# Altium integrated library Capacitors - Ceramic - 0402.IntLib: 4569 symbols (part 9 of 100)
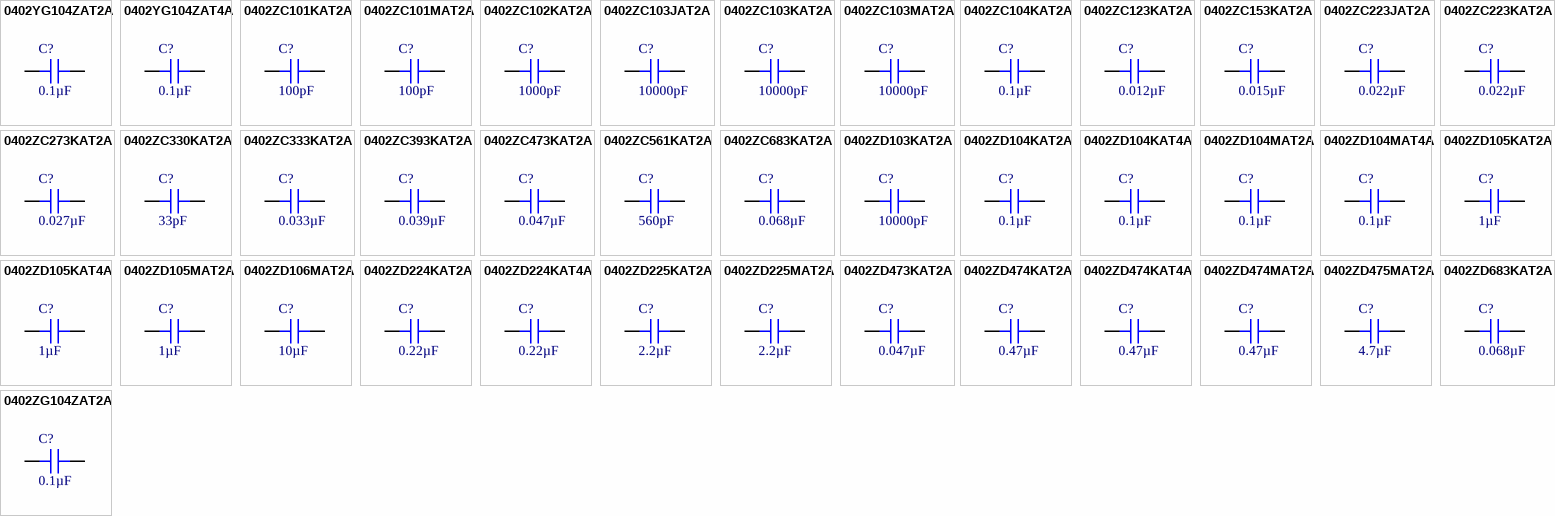
[diagram p122: symbols 0402YG104ZAT2A to 0402ZG104ZAT2A]

## 0402ZC123KAT2A
designator C?, comment 0.012µF
CAP CER 0.012UF 10V X7R 0402; Part Number: 0402ZC123KAT2A; Manufacturer: AVX Corporation; Tolerance: ±10%; Value: 0.012µF; Applications: General Purpose; Capacitance: 0.012µF; ComponentLink1Description: Datasheet; ComponentLink1URL: http://datasheets.avx.com/X7RDielectric.pdf; ComponentLink2Description: DigiKey Link; ComponentLink2URL: http://digikey.com/product-detail/en/avx-corporation/0402ZC123KAT2A/478-11787-1-ND/8573423; Device Package: 0402 (1005 Metric); LastUpdated: 9/2/2020 1:02:20 AM; Lifecycle Status: Active; Minimum Order: 1; Mounting Type: Surface Mount, MLCC; Operating Temperature: -55°C ~ 125°C; Package / Case: 0402 (1005 Metric); Packaging: TapeAndReel; PartId: 3773; Part Status: Active; Price: 0.08; Series: -; Size / Dimension: 0.039" L x 0.020" W (1.00mm x 0.50mm); Supplier 1: DigiKey; Supplier Part Number 1: 478-11787-1-ND; Temperature Coefficient: X7R; Thickness (Max): 0.022" (0.56mm); Voltage - Rated: 10V
footprint CAP 0402_1005
pins: 1, 2

## 0402ZC153KAT2A
designator C?, comment 0.015µF
CAP CER 0.015UF 10V X7R 0402; Part Number: 0402ZC153KAT2A; Manufacturer: AVX Corporation; Tolerance: ±10%; Value: 0.015µF; Applications: General Purpose; Capacitance: 0.015µF; ComponentLink1Description: Datasheet; ComponentLink1URL: http://datasheets.avx.com/X7RDielectric.pdf; ComponentLink2Description: DigiKey Link; ComponentLink2URL: http://digikey.com/product-detail/en/avx-corporation/0402ZC153KAT2A/478-11788-1-ND/8573424; Device Package: 0402 (1005 Metric); LastUpdated: 9/2/2020 1:01:22 AM; Lifecycle Status: Active; Minimum Order: 1; Mounting Type: Surface Mount, MLCC; Operating Temperature: -55°C ~ 125°C; Package / Case: 0402 (1005 Metric); Packaging: TapeAndReel; PartId: 13189; Part Status: Active; Price: 0.07; Series: -; Size / Dimension: 0.039" L x 0.020" W (1.00mm x 0.50mm); Supplier 1: DigiKey; Supplier Part Number 1: 478-11788-1-ND; Temperature Coefficient: X7R; Thickness (Max): 0.022" (0.56mm); Voltage - Rated: 10V
footprint CAP 0402_1005
pins: 1, 2

## 0402ZC223JAT2A
designator C?, comment 0.022µF
CAP CER 0.022UF 10V X7R 0402; Part Number: 0402ZC223JAT2A; Manufacturer: AVX Corporation; Tolerance: ±5%; Value: 0.022µF; Applications: General Purpose; Capacitance: 0.022µF; ComponentLink1Description: Datasheet; ComponentLink1URL: http://datasheets.avx.com/X7RDielectric.pdf; ComponentLink2Description: DigiKey Link; ComponentLink2URL: http://digikey.com/product-detail/en/avx-corporation/0402ZC223JAT2A/478-11789-1-ND/8573425; Device Package: 0402 (1005 Metric); LastUpdated: 9/2/2020 1:01:08 AM; Lifecycle Status: Active; Minimum Order: 1; Mounting Type: Surface Mount, MLCC; Operating Temperature: -55°C ~ 125°C; Package / Case: 0402 (1005 Metric); Packaging: TapeAndReel; PartId: 26155; Part Status: Active; Price: 0.07; Series: -; Supplier 1: DigiKey; Supplier Part Number 1: 478-11789-1-ND; Temperature Coefficient: X7R; Voltage - Rated: 10V
footprint CAP 0402_1005
pins: 1, 2

## 0402ZC223KAT2A
designator C?, comment 0.022µF
CAP CER 0.022UF 10V X7R 0402; Part Number: 0402ZC223KAT2A; Manufacturer: AVX Corporation; Tolerance: ±10%; Value: 0.022µF; Applications: General Purpose; Capacitance: 0.022µF; ComponentLink1Description: Datasheet; ComponentLink1URL: http://datasheets.avx.com/X7RDielectric.pdf; ComponentLink2Description: DigiKey Link; ComponentLink2URL: http://digikey.com/product-detail/en/avx-corporation/0402ZC223KAT2A/478-12664-1-ND/9949196; Device Package: 0402 (1005 Metric); LastUpdated: 9/2/2020 1:02:24 AM; Lifecycle Status: Active; Minimum Order: 1; Mounting Type: Surface Mount, MLCC; Operating Temperature: -55°C ~ 125°C; Package / Case: 0402 (1005 Metric); Packaging: TapeAndReel; PartId: 1928; Part Status: Active; Price: 0.01; Series: -; Size / Dimension: 0.039" L x 0.020" W (1.00mm x 0.50mm); Supplier 1: DigiKey; Supplier Part Number 1: 478-12664-1-ND; Temperature Coefficient: X7R; Thickness (Max): 0.022" (0.56mm); Voltage - Rated: 10V
footprint CAP 0402_1005
pins: 1, 2

## 0402ZC273KAT2A
designator C?, comment 0.027µF
CAP CER 0.027UF 10V X7R 0402; Part Number: 0402ZC273KAT2A; Manufacturer: AVX Corporation; Tolerance: ±10%; Value: 0.027µF; Applications: General Purpose; Capacitance: 0.027µF; ComponentLink1Description: Datasheet; ComponentLink1URL: http://datasheets.avx.com/X7RDielectric.pdf; ComponentLink2Description: DigiKey Link; ComponentLink2URL: http://digikey.com/product-detail/en/avx-corporation/0402ZC273KAT2A/478-1119-1-ND/564151; Device Package: 0402 (1005 Metric); LastUpdated: 9/2/2020 1:02:20 AM; Lifecycle Status: Active; Minimum Order: 1; Mounting Type: Surface Mount, MLCC; Operating Temperature: -55°C ~ 125°C; Package / Case: 0402 (1005 Metric); Packaging: TapeAndReel; PartId: 3498; Part Status: Active; Price: 0.07; Series: -; Size / Dimension: 0.039" L x 0.020" W (1.00mm x 0.50mm); Supplier 1: DigiKey; Supplier Part Number 1: 478-1119-1-ND; Temperature Coefficient: X7R; Thickness (Max): 0.022" (0.56mm); Voltage - Rated: 10V
footprint CAP 0402_1005
pins: 1, 2

## 0402ZC330KAT2A
designator C?, comment 33pF
CAP CER 33PF 10V X7R 0402; Part Number: 0402ZC330KAT2A; Manufacturer: AVX Corporation; Tolerance: ±10%; Value: 33pF; Applications: General Purpose; Capacitance: 33pF; ComponentLink1Description: Datasheet; ComponentLink1URL: http://datasheets.avx.com/X7RDielectric.pdf; ComponentLink2Description: DigiKey Link; ComponentLink2URL: http://digikey.com/product-detail/en/avx-corporation/0402ZC330KAT2A/478-11790-1-ND/8573426; Device Package: 0402 (1005 Metric); LastUpdated: 9/2/2020 1:02:04 AM; Lifecycle Status: Active; Minimum Order: 1; Mounting Type: Surface Mount, MLCC; Operating Temperature: -55°C ~ 125°C; Package / Case: 0402 (1005 Metric); Packaging: TapeAndReel; PartId: 10869; Part Status: Active; Price: 0.06; Series: -; Size / Dimension: 0.039" L x 0.020" W (1.00mm x 0.50mm); Supplier 1: DigiKey; Supplier Part Number 1: 478-11790-1-ND; Temperature Coefficient: X7R; Thickness (Max): 0.022" (0.56mm); Voltage - Rated: 10V
footprint CAP 0402_1005
pins: 1, 2

## 0402ZC333KAT2A
designator C?, comment 0.033µF
CAP CER 0.033UF 10V X7R 0402; Part Number: 0402ZC333KAT2A; Manufacturer: AVX Corporation; Tolerance: ±10%; Value: 0.033µF; Applications: General Purpose; Capacitance: 0.033µF; ComponentLink1Description: Datasheet; ComponentLink1URL: http://datasheets.avx.com/X7RDielectric.pdf; ComponentLink2Description: DigiKey Link; ComponentLink2URL: http://digikey.com/product-detail/en/avx-corporation/0402ZC333KAT2A/478-1120-1-ND/564152; Device Package: 0402 (1005 Metric); LastUpdated: 9/2/2020 1:02:16 AM; Lifecycle Status: Active; Minimum Order: 1; Mounting Type: Surface Mount, MLCC; Operating Temperature: -55°C ~ 125°C; Package / Case: 0402 (1005 Metric); Packaging: TapeAndReel; PartId: 5405; Part Status: Active; Price: 0.06; Series: -; Size / Dimension: 0.039" L x 0.020" W (1.00mm x 0.50mm); Supplier 1: DigiKey; Supplier Part Number 1: 478-1120-1-ND; Temperature Coefficient: X7R; Thickness (Max): 0.022" (0.56mm); Voltage - Rated: 10V
footprint CAP 0402_1005
pins: 1, 2

## 0402ZC393KAT2A
designator C?, comment 0.039µF
CAP CER 0.039UF 10V X7R 0402; Part Number: 0402ZC393KAT2A; Manufacturer: AVX Corporation; Tolerance: ±10%; Value: 0.039µF; Applications: General Purpose; Capacitance: 0.039µF; ComponentLink1Description: Datasheet; ComponentLink1URL: http://datasheets.avx.com/X7RDielectric.pdf; ComponentLink2Description: DigiKey Link; ComponentLink2URL: http://digikey.com/product-detail/en/avx-corporation/0402ZC393KAT2A/478-1121-1-ND/564153; Device Package: 0402 (1005 Metric); LastUpdated: 9/2/2020 1:02:08 AM; Lifecycle Status: Active; Minimum Order: 1; Mounting Type: Surface Mount, MLCC; Operating Temperature: -55°C ~ 125°C; Package / Case: 0402 (1005 Metric); Packaging: TapeAndReel; PartId: 8941; Part Status: Active; Price: 0.07; Series: -; Size / Dimension: 0.039" L x 0.020" W (1.00mm x 0.50mm); Supplier 1: DigiKey; Supplier Part Number 1: 478-1121-1-ND; Temperature Coefficient: X7R; Thickness (Max): 0.022" (0.56mm); Voltage - Rated: 10V
footprint CAP 0402_1005
pins: 1, 2

## 0402ZC473KAT2A
designator C?, comment 0.047µF
CAP CER 0.047UF 10V X7R 0402; Part Number: 0402ZC473KAT2A; Manufacturer: AVX Corporation; Tolerance: ±10%; Value: 0.047µF; Applications: General Purpose; Capacitance: 0.047µF; ComponentLink1Description: Datasheet; ComponentLink1URL: http://datasheets.avx.com/X7RDielectric.pdf; ComponentLink2Description: DigiKey Link; ComponentLink2URL: http://digikey.com/product-detail/en/avx-corporation/0402ZC473KAT2A/478-10180-1-ND/6797191; Device Package: 0402 (1005 Metric); LastUpdated: 9/2/2020 1:02:23 AM; Lifecycle Status: Active; Minimum Order: 1; Mounting Type: Surface Mount, MLCC; Operating Temperature: -55°C ~ 125°C; Package / Case: 0402 (1005 Metric); Packaging: TapeAndReel; PartId: 2192; Part Status: Active; Price: 0.08; Series: -; Size / Dimension: 0.039" L x 0.020" W (1.00mm x 0.50mm); Supplier 1: DigiKey; Supplier Part Number 1: 478-10180-1-ND; Temperature Coefficient: X7R; Thickness (Max): 0.022" (0.56mm); Voltage - Rated: 10V
footprint CAP 0402_1005
pins: 1, 2

## 0402ZC561KAT2A
designator C?, comment 560pF
CAP CER 560PF 10V X7R 0402; Part Number: 0402ZC561KAT2A; Manufacturer: AVX Corporation; Tolerance: ±10%; Value: 560pF; Applications: General Purpose; Capacitance: 560pF; ComponentLink1Description: Datasheet; ComponentLink1URL: http://datasheets.avx.com/X7RDielectric.pdf; ComponentLink2Description: DigiKey Link; ComponentLink2URL: http://digikey.com/product-detail/en/avx-corporation/0402ZC561KAT2A/478-11791-1-ND/8573427; Device Package: 0402 (1005 Metric); LastUpdated: 9/2/2020 1:02:16 AM; Lifecycle Status: Active; Minimum Order: 1; Mounting Type: Surface Mount, MLCC; Operating Temperature: -55°C ~ 125°C; Package / Case: 0402 (1005 Metric); Packaging: TapeAndReel; PartId: 5430; Part Status: Active; Price: 0.06; Series: -; Size / Dimension: 0.039" L x 0.020" W (1.00mm x 0.50mm); Supplier 1: DigiKey; Supplier Part Number 1: 478-11791-1-ND; Temperature Coefficient: X7R; Thickness (Max): 0.022" (0.55mm); Voltage - Rated: 10V
footprint CAP 0402_1005
pins: 1, 2

## 0402ZC683KAT2A
designator C?, comment 0.068µF
CAP CER 0.068UF 10V X7R 0402; Part Number: 0402ZC683KAT2A; Manufacturer: AVX Corporation; Tolerance: ±10%; Value: 0.068µF; Applications: General Purpose; Capacitance: 0.068µF; ComponentLink1Description: Datasheet; ComponentLink1URL: http://datasheets.avx.com/X7RDielectric.pdf; ComponentLink2Description: DigiKey Link; ComponentLink2URL: http://digikey.com/product-detail/en/avx-corporation/0402ZC683KAT2A/478-7413-1-ND/3660355; Device Package: 0402 (1005 Metric); LastUpdated: 9/2/2020 1:02:14 AM; Lifecycle Status: Active; Minimum Order: 1; Mounting Type: Surface Mount, MLCC; Operating Temperature: -55°C ~ 125°C; Package / Case: 0402 (1005 Metric); Packaging: TapeAndReel; PartId: 6615; Part Status: Active; Price: 0.08; Series: -; Size / Dimension: 0.039" L x 0.020" W (1.00mm x 0.50mm); Supplier 1: DigiKey; Supplier Part Number 1: 478-7413-1-ND; Temperature Coefficient: X7R; Thickness (Max): 0.022" (0.55mm); Voltage - Rated: 10V
footprint CAP 0402_1005
pins: 1, 2

## 0402ZD103KAT2A
designator C?, comment 10000pF
CAP CER 10000PF 10V X5R 0402; Part Number: 0402ZD103KAT2A; Manufacturer: AVX Corporation; Tolerance: ±10%; Value: 10000pF; Applications: General Purpose; Capacitance: 10000pF; ComponentLink1Description: Datasheet; ComponentLink1URL: http://datasheets.avx.com/cx5r.pdf; ComponentLink2Description: DigiKey Link; ComponentLink2URL: http://digikey.com/product-detail/en/avx-corporation/0402ZD103KAT2A/478-11792-1-ND/8573428; Device Package: 0402 (1005 Metric); LastUpdated: 9/2/2020 1:02:06 AM; Lifecycle Status: Active; Minimum Order: 1; Mounting Type: Surface Mount, MLCC; Operating Temperature: -55°C ~ 85°C; Package / Case: 0402 (1005 Metric); Packaging: TapeAndReel; PartId: 10134; Part Status: Active; Price: 0.05; Series: -; Size / Dimension: 0.039" L x 0.020" W (1.00mm x 0.50mm); Supplier 1: DigiKey; Supplier Part Number 1: 478-11792-1-ND; Temperature Coefficient: X5R; Thickness (Max): 0.022" (0.56mm); Voltage - Rated: 10V
footprint CAP 0402_1005
pins: 1, 2

## 0402ZD104KAT2A
designator C?, comment 0.1µF
CAP CER 0.1UF 10V X5R 0402; Part Number: 0402ZD104KAT2A; Manufacturer: AVX Corporation; Tolerance: ±10%; Value: 0.1µF; Applications: General Purpose; Capacitance: 0.1µF; ComponentLink1Description: Datasheet; ComponentLink1URL: http://datasheets.avx.com/cx5r.pdf; ComponentLink2Description: DigiKey Link; ComponentLink2URL: http://digikey.com/product-detail/en/avx-corporation/0402ZD104KAT2A/478-1129-1-ND/564161; Device Package: 0402 (1005 Metric); LastUpdated: 9/2/2020 1:01:39 AM; Lifecycle Status: Active; Minimum Order: 1; Mounting Type: Surface Mount, MLCC; Operating Temperature: -55°C ~ 85°C; Package / Case: 0402 (1005 Metric); Packaging: TapeAndReel; PartId: 12555; Part Status: Active; Price: 0.01; Series: -; Size / Dimension: 0.039" L x 0.020" W (1.00mm x 0.50mm); Supplier 1: DigiKey; Supplier Part Number 1: 478-1129-1-ND; Temperature Coefficient: X5R; Thickness (Max): 0.022" (0.56mm); Voltage - Rated: 10V
footprint CAP 0402_1005
pins: 1, 2

## 0402ZD104KAT4A
designator C?, comment 0.1µF
CAP CER 0.1UF 10V X5R 0402; Part Number: 0402ZD104KAT4A; Manufacturer: AVX Corporation; Tolerance: ±10%; Value: 0.1µF; Applications: General Purpose; Capacitance: 0.1µF; ComponentLink1Description: Datasheet; ComponentLink1URL: http://datasheets.avx.com/cx5r.pdf; ComponentLink2Description: DigiKey Link; ComponentLink2URL: http://digikey.com/product-detail/en/avx-corporation/0402ZD104KAT4A/478-11506-1-ND/8107707; Device Package: 0402 (1005 Metric); LastUpdated: 9/2/2020 1:02:15 AM; Lifecycle Status: Active; Minimum Order: 1; Mounting Type: Surface Mount, MLCC; Operating Temperature: -55°C ~ 85°C; Package / Case: 0402 (1005 Metric); Packaging: CutTape; PartId: 6084; Part Status: Active; Price: 0.10; Series: -; Size / Dimension: 0.039" L x 0.020" W (1.00mm x 0.50mm); Supplier 1: DigiKey; Supplier Part Number 1: 478-11506-1-ND; Temperature Coefficient: X5R; Thickness (Max): 0.022" (0.56mm); Voltage - Rated: 10V
footprint CAP 0402_1005
pins: 1, 2

## 0402ZD104MAT2A
designator C?, comment 0.1µF
CAP CER 0.1UF 10V X5R 0402; Part Number: 0402ZD104MAT2A; Manufacturer: AVX Corporation; Tolerance: ±20%; Value: 0.1µF; Applications: General Purpose; Capacitance: 0.1µF; ComponentLink1Description: Datasheet; ComponentLink1URL: http://datasheets.avx.com/cx5r.pdf; ComponentLink2Description: DigiKey Link; ComponentLink2URL: http://digikey.com/product-detail/en/avx-corporation/0402ZD104MAT2A/478-6198-1-ND/2391397; Device Package: 0402 (1005 Metric); LastUpdated: 9/2/2020 1:02:04 AM; Lifecycle Status: Active; Minimum Order: 1; Mounting Type: Surface Mount, MLCC; Operating Temperature: -55°C ~ 85°C; Package / Case: 0402 (1005 Metric); Packaging: TapeAndReel; PartId: 10829; Part Status: Active; Price: 0.01; Series: -; Size / Dimension: 0.039" L x 0.020" W (1.00mm x 0.50mm); Supplier 1: DigiKey; Supplier Part Number 1: 478-6198-1-ND; Temperature Coefficient: X5R; Thickness (Max): 0.022" (0.56mm); Voltage - Rated: 10V
footprint CAP 0402_1005
pins: 1, 2

## 0402ZD104MAT4A
designator C?, comment 0.1µF
CAP CER 0.1UF 10V X5R 0402; Part Number: 0402ZD104MAT4A; Manufacturer: AVX Corporation; Tolerance: ±20%; Value: 0.1µF; Applications: General Purpose; Capacitance: 0.1µF; ComponentLink1Description: Datasheet; ComponentLink1URL: http://datasheets.avx.com/cx5r.pdf; ComponentLink2Description: DigiKey Link; ComponentLink2URL: http://digikey.com/product-detail/en/avx-corporation/0402ZD104MAT4A/478-11507-1-ND/8107708; Device Package: 0402 (1005 Metric); LastUpdated: 9/2/2020 1:02:20 AM; Lifecycle Status: Active; Minimum Order: 1; Mounting Type: Surface Mount, MLCC; Operating Temperature: -55°C ~ 85°C; Package / Case: 0402 (1005 Metric); Packaging: TapeAndReel; PartId: 3577; Part Status: Active; Price: 0.01; Series: -; Size / Dimension: 0.039" L x 0.020" W (1.00mm x 0.50mm); Supplier 1: DigiKey; Supplier Part Number 1: 478-11507-1-ND; Temperature Coefficient: X5R; Thickness (Max): 0.022" (0.56mm); Voltage - Rated: 10V
footprint CAP 0402_1005
pins: 1, 2

## 0402ZD105KAT2A
designator C?, comment 1µF
CAP CER 1UF 10V X5R 0402; Part Number: 0402ZD105KAT2A; Manufacturer: AVX Corporation; Tolerance: ±10%; Value: 1µF; Applications: General Purpose; Capacitance: 1µF; ComponentLink1Description: Datasheet; ComponentLink1URL: http://datasheets.avx.com/cx5r.pdf; ComponentLink2Description: DigiKey Link; ComponentLink2URL: http://digikey.com/product-detail/en/avx-corporation/0402ZD105KAT2A/478-4596-1-ND/1645907; Device Package: 0402 (1005 Metric); LastUpdated: 9/2/2020 1:02:11 AM; Lifecycle Status: Active; Minimum Order: 1; Mounting Type: Surface Mount, MLCC; Operating Temperature: -55°C ~ 85°C; Package / Case: 0402 (1005 Metric); Packaging: TapeAndReel; PartId: 7596; Part Status: Active; Price: 0.03; Series: -; Size / Dimension: 0.039" L x 0.020" W (1.00mm x 0.50mm); Supplier 1: DigiKey; Supplier Part Number 1: 478-4596-1-ND; Temperature Coefficient: X5R; Thickness (Max): 0.022" (0.56mm); Voltage - Rated: 10V
footprint CAP 0402_1005
pins: 1, 2

## 0402ZD105KAT4A
designator C?, comment 1µF
CAP CER 1UF 10V X5R 0402; Part Number: 0402ZD105KAT4A; Manufacturer: AVX Corporation; Tolerance: ±10%; Value: 1µF; Applications: General Purpose; Capacitance: 1µF; ComponentLink1Description: Datasheet; ComponentLink1URL: http://datasheets.avx.com/cx5r.pdf; ComponentLink2Description: DigiKey Link; ComponentLink2URL: http://digikey.com/product-detail/en/avx-corporation/0402ZD105KAT4A/478-10063-1-ND/6564285; Device Package: 0402 (1005 Metric); LastUpdated: 9/2/2020 1:02:25 AM; Lifecycle Status: Active; Minimum Order: 1; Mounting Type: Surface Mount, MLCC; Operating Temperature: -55°C ~ 85°C; Package / Case: 0402 (1005 Metric); Packaging: TapeAndReel; PartId: 1846; Part Status: Active; Price: 0.02; Series: -; Size / Dimension: 0.039" L x 0.020" W (1.00mm x 0.50mm); Supplier 1: DigiKey; Supplier Part Number 1: 478-10063-1-ND; Temperature Coefficient: X5R; Thickness (Max): 0.022" (0.56mm); Voltage - Rated: 10V
footprint CAP 0402_1005
pins: 1, 2

## 0402ZD105MAT2A
designator C?, comment 1µF
CAP CER 1UF 10V X5R 0402; Part Number: 0402ZD105MAT2A; Manufacturer: AVX Corporation; Tolerance: ±20%; Value: 1µF; Applications: General Purpose; Capacitance: 1µF; ComponentLink1Description: Datasheet; ComponentLink1URL: http://datasheets.avx.com/cx5r.pdf; ComponentLink2Description: DigiKey Link; ComponentLink2URL: http://digikey.com/product-detail/en/avx-corporation/0402ZD105MAT2A/478-5768-1-ND/2136360; Device Package: 0402 (1005 Metric); LastUpdated: 9/2/2020 1:02:01 AM; Lifecycle Status: Active; Minimum Order: 1; Mounting Type: Surface Mount, MLCC; Operating Temperature: -55°C ~ 85°C; Package / Case: 0402 (1005 Metric); Packaging: TapeAndReel; PartId: 11807; Part Status: Active; Price: 0.05; Series: -; Size / Dimension: 0.039" L x 0.020" W (1.00mm x 0.50mm); Supplier 1: DigiKey; Supplier Part Number 1: 478-5768-1-ND; Temperature Coefficient: X5R; Thickness (Max): 0.022" (0.56mm); Voltage - Rated: 10V
footprint CAP 0402_1005
pins: 1, 2

## 0402ZD106MAT2A
designator C?, comment 10µF
CAP CER 10UF 10V X5R 0402; Part Number: 0402ZD106MAT2A; Manufacturer: AVX Corporation; Tolerance: ±20%; Value: 10µF; Applications: General Purpose; Capacitance: 10µF; ComponentLink1Description: Datasheet; ComponentLink1URL: http://datasheets.avx.com/cx5r.pdf; ComponentLink2Description: DigiKey Link; ComponentLink2URL: http://digikey.com/product-detail/en/avx-corporation/0402ZD106MAT2A/478-10052-1-ND/6564275; Device Package: 0402 (1005 Metric); LastUpdated: 9/2/2020 1:02:13 AM; Lifecycle Status: Active; Minimum Order: 1; Mounting Type: Surface Mount, MLCC; Operating Temperature: -55°C ~ 85°C; Package / Case: 0402 (1005 Metric); Packaging: TapeAndReel; PartId: 6854; Part Status: Active; Price: 0.24; Series: -; Size / Dimension: 0.039" L x 0.020" W (1.00mm x 0.50mm); Supplier 1: DigiKey; Supplier Part Number 1: 478-10052-1-ND; Temperature Coefficient: X5R; Thickness (Max): 0.028" (0.71mm); Voltage - Rated: 10V
footprint CAP 0402_1005
pins: 1, 2

## 0402ZD224KAT2A
designator C?, comment 0.22µF
CAP CER 0.22UF 10V X5R 0402; Part Number: 0402ZD224KAT2A; Manufacturer: AVX Corporation; Tolerance: ±10%; Value: 0.22µF; Applications: General Purpose; Capacitance: 0.22µF; ComponentLink1Description: Datasheet; ComponentLink1URL: http://datasheets.avx.com/cx5r.pdf; ComponentLink2Description: DigiKey Link; ComponentLink2URL: http://digikey.com/product-detail/en/avx-corporation/0402ZD224KAT2A/478-6020-1-ND/2208934; Device Package: 0402 (1005 Metric); LastUpdated: 9/2/2020 1:02:25 AM; Lifecycle Status: Active; Minimum Order: 1; Mounting Type: Surface Mount, MLCC; Operating Temperature: -55°C ~ 85°C; Package / Case: 0402 (1005 Metric); Packaging: TapeAndReel; PartId: 1719; Part Status: Active; Price: 0.01; Series: -; Size / Dimension: 0.039" L x 0.020" W (1.00mm x 0.50mm); Supplier 1: DigiKey; Supplier Part Number 1: 478-6020-1-ND; Temperature Coefficient: X5R; Thickness (Max): 0.022" (0.56mm); Voltage - Rated: 10V
footprint CAP 0402_1005
pins: 1, 2

## 0402ZD224KAT4A
designator C?, comment 0.22µF
CAP CER 0.22UF 10V X5R 0402; Part Number: 0402ZD224KAT4A; Manufacturer: AVX Corporation; Tolerance: ±10%; Value: 0.22µF; Applications: General Purpose; Capacitance: 0.22µF; ComponentLink1Description: Datasheet; ComponentLink1URL: http://datasheets.avx.com/cx5r.pdf; ComponentLink2Description: DigiKey Link; ComponentLink2URL: http://digikey.com/product-detail/en/avx-corporation/0402ZD224KAT4A/478-12454-1-ND/9749306; Device Package: 0402 (1005 Metric); LastUpdated: 9/2/2020 1:02:11 AM; Lifecycle Status: Active; Minimum Order: 1; Mounting Type: Surface Mount, MLCC; Operating Temperature: -55°C ~ 85°C; Package / Case: 0402 (1005 Metric); Packaging: TapeAndReel; PartId: 7907; Part Status: Active; Price: 0.01; Series: -; Size / Dimension: 0.039" L x 0.020" W (1.00mm x 0.50mm); Supplier 1: DigiKey; Supplier Part Number 1: 478-12454-1-ND; Temperature Coefficient: X5R; Thickness (Max): 0.022" (0.56mm); Voltage - Rated: 10V
footprint CAP 0402_1005
pins: 1, 2

## 0402ZD225KAT2A
designator C?, comment 2.2µF
CAP CER 2.2UF 10V X5R 0402; Part Number: 0402ZD225KAT2A; Manufacturer: AVX Corporation; Tolerance: ±10%; Value: 2.2µF; Applications: General Purpose; Capacitance: 2.2µF; ComponentLink1Description: Datasheet; ComponentLink1URL: http://datasheets.avx.com/cx5r.pdf; ComponentLink2Description: DigiKey Link; ComponentLink2URL: http://digikey.com/product-detail/en/avx-corporation/0402ZD225KAT2A/478-10072-1-ND/6564294; Device Package: 0402 (1005 Metric); LastUpdated: 9/2/2020 1:02:08 AM; Lifecycle Status: Active; Minimum Order: 1; Mounting Type: Surface Mount, MLCC; Operating Temperature: -55°C ~ 85°C; Package / Case: 0402 (1005 Metric); Packaging: TapeAndReel; PartId: 9346; Part Status: Active; Price: 0.09; Series: -; Size / Dimension: 0.039" L x 0.020" W (1.00mm x 0.50mm); Supplier 1: DigiKey; Supplier Part Number 1: 478-10072-1-ND; Temperature Coefficient: X5R; Thickness (Max): 0.022" (0.56mm); Voltage - Rated: 10V
footprint CAP 0402_1005
pins: 1, 2

## 0402ZD225MAT2A
designator C?, comment 2.2µF
CAP CER 2.2UF 10V X5R 0402; Part Number: 0402ZD225MAT2A; Manufacturer: AVX Corporation; Tolerance: ±20%; Value: 2.2µF; Applications: General Purpose; Capacitance: 2.2µF; ComponentLink1Description: Datasheet; ComponentLink1URL: http://datasheets.avx.com/cx5r.pdf; ComponentLink2Description: DigiKey Link; ComponentLink2URL: http://digikey.com/product-detail/en/avx-corporation/0402ZD225MAT2A/478-11437-1-ND/8019292; Device Package: 0402 (1005 Metric); LastUpdated: 9/2/2020 1:02:11 AM; Lifecycle Status: Active; Minimum Order: 1; Mounting Type: Surface Mount, MLCC; Operating Temperature: -55°C ~ 85°C; Package / Case: 0402 (1005 Metric); Packaging: TapeAndReel; PartId: 7875; Part Status: Active; Price: 0.02; Series: -; Size / Dimension: 0.039" L x 0.020" W (1.00mm x 0.50mm); Supplier 1: DigiKey; Supplier Part Number 1: 478-11437-1-ND; Temperature Coefficient: X5R; Thickness (Max): 0.022" (0.56mm); Voltage - Rated: 10V
footprint CAP 0402_1005
pins: 1, 2

## 0402ZD473KAT2A
designator C?, comment 0.047µF
CAP CER 0.047UF 10V X5R 0402; Part Number: 0402ZD473KAT2A; Manufacturer: AVX Corporation; Tolerance: ±10%; Value: 0.047µF; Applications: General Purpose; Capacitance: 0.047µF; ComponentLink1Description: Datasheet; ComponentLink1URL: http://datasheets.avx.com/cx5r.pdf; ComponentLink2Description: DigiKey Link; ComponentLink2URL: http://digikey.com/product-detail/en/avx-corporation/0402ZD473KAT2A/478-3667-1-ND/1116365; Device Package: 0402 (1005 Metric); LastUpdated: 9/2/2020 1:02:18 AM; Lifecycle Status: Active; Minimum Order: 1; Mounting Type: Surface Mount, MLCC; Operating Temperature: -55°C ~ 85°C; Package / Case: 0402 (1005 Metric); Packaging: TapeAndReel; PartId: 4686; Part Status: Active; Price: 0.02; Series: -; Size / Dimension: 0.039" L x 0.020" W (1.00mm x 0.50mm); Supplier 1: DigiKey; Supplier Part Number 1: 478-3667-1-ND; Temperature Coefficient: X5R; Thickness (Max): 0.022" (0.56mm); Voltage - Rated: 10V
footprint CAP 0402_1005
pins: 1, 2

## 0402ZD474KAT2A
designator C?, comment 0.47µF
CAP CER 0.47UF 10V X5R 0402; Part Number: 0402ZD474KAT2A; Manufacturer: AVX Corporation; Tolerance: ±10%; Value: 0.47µF; Applications: General Purpose; Capacitance: 0.47µF; ComponentLink1Description: Datasheet; ComponentLink1URL: http://datasheets.avx.com/cx5r.pdf; ComponentLink2Description: DigiKey Link; ComponentLink2URL: http://digikey.com/product-detail/en/avx-corporation/0402ZD474KAT2A/478-10181-1-ND/6797192; Device Package: 0402 (1005 Metric); LastUpdated: 9/2/2020 1:02:05 AM; Lifecycle Status: Active; Minimum Order: 1; Mounting Type: Surface Mount, MLCC; Operating Temperature: -55°C ~ 85°C; Package / Case: 0402 (1005 Metric); Packaging: TapeAndReel; PartId: 10224; Part Status: Active; Price: 0.11; Series: -; Size / Dimension: 0.039" L x 0.020" W (1.00mm x 0.50mm); Supplier 1: DigiKey; Supplier Part Number 1: 478-10181-1-ND; Temperature Coefficient: X5R; Thickness (Max): 0.022" (0.55mm); Voltage - Rated: 10V
footprint CAP 0402_1005
pins: 1, 2

## 0402ZD474KAT4A
designator C?, comment 0.47µF
CAP CER 0.47UF 10V X5R 0402; Part Number: 0402ZD474KAT4A; Manufacturer: AVX Corporation; Tolerance: ±10%; Value: 0.47µF; Applications: General Purpose; Capacitance: 0.47µF; ComponentLink1Description: Datasheet; ComponentLink1URL: http://datasheets.avx.com/cx5r.pdf; ComponentLink2Description: DigiKey Link; ComponentLink2URL: http://digikey.com/product-detail/en/avx-corporation/0402ZD474KAT4A/478-12455-1-ND/9749307; Device Package: 0402 (1005 Metric); LastUpdated: 9/2/2020 1:01:55 AM; Lifecycle Status: Active; Minimum Order: 1; Mounting Type: Surface Mount, MLCC; Operating Temperature: -55°C ~ 85°C; Package / Case: 0402 (1005 Metric); Packaging: TapeAndReel; PartId: 12008; Part Status: Active; Price: 0.11; Series: -; Size / Dimension: 0.039" L x 0.020" W (1.00mm x 0.50mm); Supplier 1: DigiKey; Supplier Part Number 1: 478-12455-1-ND; Temperature Coefficient: X5R; Thickness (Max): 0.022" (0.56mm); Voltage - Rated: 10V
footprint CAP 0402_1005
pins: 1, 2

## 0402ZD474MAT2A
designator C?, comment 0.47µF
CAP CER 0.47UF 10V X5R 0402; Part Number: 0402ZD474MAT2A; Manufacturer: AVX Corporation; Tolerance: ±20%; Value: 0.47µF; Applications: General Purpose; Capacitance: 0.47µF; ComponentLink1Description: Datasheet; ComponentLink1URL: http://datasheets.avx.com/cx5r.pdf; ComponentLink2Description: DigiKey Link; ComponentLink2URL: http://digikey.com/product-detail/en/avx-corporation/0402ZD474MAT2A/478-13018-1-ND/9948536; Device Package: 0402 (1005 Metric); LastUpdated: 9/2/2020 1:01:55 AM; Lifecycle Status: Active; Minimum Order: 1; Mounting Type: Surface Mount, MLCC; Operating Temperature: -55°C ~ 85°C; Package / Case: 0402 (1005 Metric); Packaging: TapeAndReel; PartId: 12019; Part Status: Active; Price: 0.12; Series: -; Size / Dimension: 0.039" L x 0.020" W (1.00mm x 0.50mm); Supplier 1: DigiKey; Supplier Part Number 1: 478-13018-1-ND; Temperature Coefficient: X5R; Thickness (Max): 0.022" (0.56mm); Voltage - Rated: 10V
footprint CAP 0402_1005
pins: 1, 2

## 0402ZD475MAT2A
designator C?, comment 4.7µF
CAP CER 4.7UF 10V X5R 0402; Part Number: 0402ZD475MAT2A; Manufacturer: AVX Corporation; Tolerance: ±20%; Value: 4.7µF; Applications: General Purpose; Capacitance: 4.7µF; ComponentLink1Description: Datasheet; ComponentLink1URL: http://datasheets.avx.com/cx5r.pdf; ComponentLink2Description: DigiKey Link; ComponentLink2URL: http://digikey.com/product-detail/en/avx-corporation/0402ZD475MAT2A/478-10791-1-ND/7536448; Device Package: 0402 (1005 Metric); LastUpdated: 9/2/2020 1:01:46 AM; Lifecycle Status: Active; Minimum Order: 1; Mounting Type: Surface Mount, MLCC; Operating Temperature: -55°C ~ 85°C; Package / Case: 0402 (1005 Metric); Packaging: TapeAndReel; PartId: 12337; Part Status: Active; Price: 0.08; Series: -; Size / Dimension: 0.039" L x 0.020" W (1.00mm x 0.50mm); Supplier 1: DigiKey; Supplier Part Number 1: 478-10791-1-ND; Temperature Coefficient: X5R; Thickness (Max): 0.028" (0.71mm); Voltage - Rated: 10V
footprint CAP 0402_1005
pins: 1, 2

## 0402ZD683KAT2A
designator C?, comment 0.068µF
CAP CER 0.068UF 10V X5R 0402; Part Number: 0402ZD683KAT2A; Manufacturer: AVX Corporation; Tolerance: ±10%; Value: 0.068µF; Applications: General Purpose; Capacitance: 0.068µF; ComponentLink1Description: Datasheet; ComponentLink1URL: http://datasheets.avx.com/cx5r.pdf; ComponentLink2Description: DigiKey Link; ComponentLink2URL: http://digikey.com/product-detail/en/avx-corporation/0402ZD683KAT2A/478-1128-1-ND/564160; Device Package: 0402 (1005 Metric); LastUpdated: 9/2/2020 1:02:07 AM; Lifecycle Status: Active; Minimum Order: 1; Mounting Type: Surface Mount, MLCC; Operating Temperature: -55°C ~ 85°C; Package / Case: 0402 (1005 Metric); Packaging: TapeAndReel; PartId: 9741; Part Status: Active; Price: 0.03; Series: -; Size / Dimension: 0.039" L x 0.020" W (1.00mm x 0.50mm); Supplier 1: DigiKey; Supplier Part Number 1: 478-1128-1-ND; Temperature Coefficient: X5R; Thickness (Max): 0.022" (0.56mm); Voltage - Rated: 10V
footprint CAP 0402_1005
pins: 1, 2

## 0402ZG104ZAT2A
designator C?, comment 0.1µF
CAP CER 0.1UF 10V Y5V 0402; Part Number: 0402ZG104ZAT2A; Manufacturer: AVX Corporation; Temperature Coefficient: Y5V (F); Tolerance: -20%, +80%; Value: 0.1µF; Applications: General Purpose; Capacitance: 0.1µF; ComponentLink1Description: Datasheet; ComponentLink1URL: http://datasheets.avx.com/Y5V.pdf; ComponentLink2Description: DigiKey Link; ComponentLink2URL: http://digikey.com/product-detail/en/avx-corporation/0402ZG104ZAT2A/478-10182-1-ND/6797600; Device Package: 0402 (1005 Metric); LastUpdated: 9/2/2020 1:02:11 AM; Lifecycle Status: Active; Minimum Order: 1; Mounting Type: Surface Mount, MLCC; Operating Temperature: -30°C ~ 85°C; Package / Case: 0402 (1005 Metric); Packaging: TapeAndReel; PartId: 7852; Part Status: Active; Price: 0.01; Series: -; Size / Dimension: 0.039" L x 0.020" W (1.00mm x 0.50mm); Supplier 1: DigiKey; Supplier Part Number 1: 478-10182-1-ND; Thickness (Max): 0.022" (0.56mm); Voltage - Rated: 10V
footprint CAP 0402_1005
pins: 1, 2

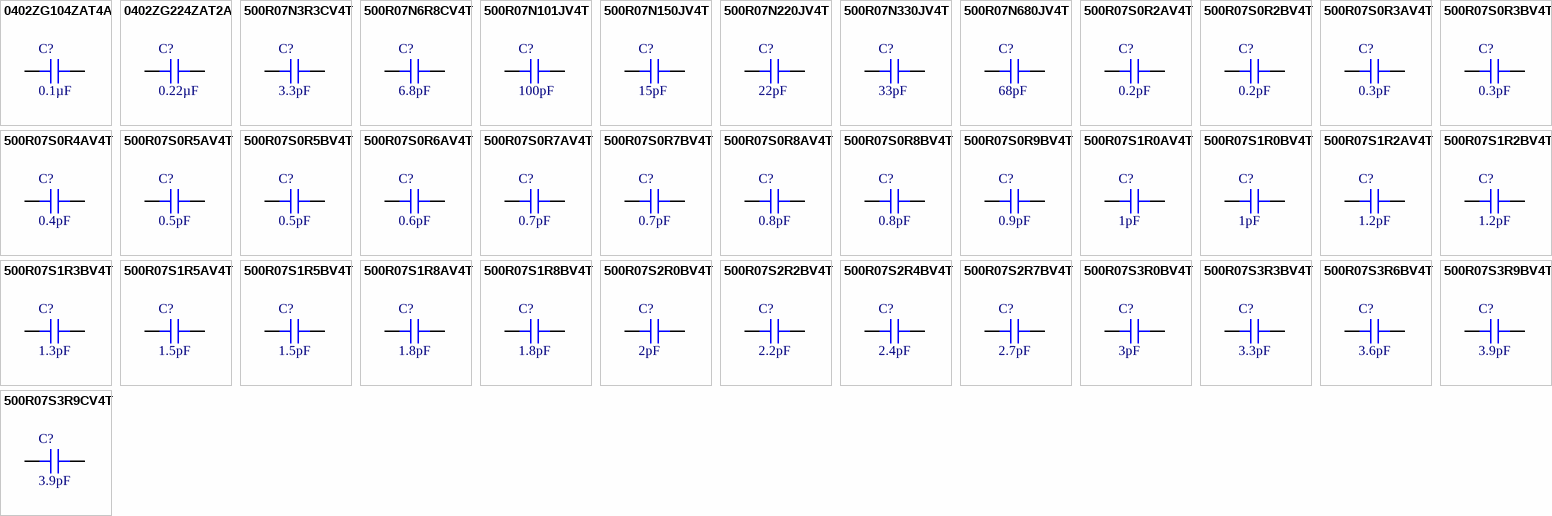
[diagram p10: symbols 0402ZG104ZAT4A to 500R07S3R9CV4T]

## 0402ZG104ZAT4A
designator C?, comment 0.1µF
CAP CER 0.1UF 10V Y5V 0402; Part Number: 0402ZG104ZAT4A; Manufacturer: AVX Corporation; Temperature Coefficient: Y5V (F); Tolerance: -20%, +80%; Value: 0.1µF; Applications: General Purpose; Capacitance: 0.1µF; ComponentLink1Description: Datasheet; ComponentLink1URL: http://datasheets.avx.com/Y5V.pdf; ComponentLink2Description: DigiKey Link; ComponentLink2URL: http://digikey.com/product-detail/en/avx-corporation/0402ZG104ZAT4A/478-12451-1-ND/9749303; Device Package: 0402 (1005 Metric); LastUpdated: 9/2/2020 1:02:11 AM; Lifecycle Status: Active; Minimum Order: 1; Mounting Type: Surface Mount, MLCC; Operating Temperature: -30°C ~ 85°C; Package / Case: 0402 (1005 Metric); Packaging: TapeAndReel; PartId: 7823; Part Status: Active; Price: 0.01; Series: -; Size / Dimension: 0.039" L x 0.020" W (1.00mm x 0.50mm); Supplier 1: DigiKey; Supplier Part Number 1: 478-12451-1-ND; Thickness (Max): 0.022" (0.56mm); Voltage - Rated: 10V
footprint CAP 0402_1005
pins: 1, 2

## 0402ZG224ZAT2A
designator C?, comment 0.22µF
CAP CER 0.22UF 10V Y5V 0402; Part Number: 0402ZG224ZAT2A; Manufacturer: AVX Corporation; Temperature Coefficient: Y5V (F); Tolerance: -20%, +80%; Value: 0.22µF; Applications: General Purpose; Capacitance: 0.22µF; ComponentLink1Description: Datasheet; ComponentLink1URL: http://datasheets.avx.com/Y5V.pdf; ComponentLink2Description: DigiKey Link; ComponentLink2URL: http://digikey.com/product-detail/en/avx-corporation/0402ZG224ZAT2A/478-1139-1-ND/564171; Device Package: 0402 (1005 Metric); LastUpdated: 9/2/2020 1:02:04 AM; Lifecycle Status: Active; Minimum Order: 1; Mounting Type: Surface Mount, MLCC; Operating Temperature: -30°C ~ 85°C; Package / Case: 0402 (1005 Metric); Packaging: TapeAndReel; PartId: 10979; Part Status: Active; Price: 0.04; Series: -; Size / Dimension: 0.039" L x 0.020" W (1.00mm x 0.50mm); Supplier 1: DigiKey; Supplier Part Number 1: 478-1139-1-ND; Thickness (Max): 0.022" (0.56mm); Voltage - Rated: 10V
footprint CAP 0402_1005
pins: 1, 2

## 500R07N3R3CV4T
designator C?, comment 3.3pF
CAP CER 3.3PF 50V C0G/NP0 0402; Part Number: 500R07N3R3CV4T; Manufacturer: Johanson Dielectrics Inc.; Temperature Coefficient: C0G, NP0; Tolerance: ±0.25pF; Value: 3.3pF; Applications: General Purpose; Capacitance: 3.3pF; ComponentLink1Description: Datasheet; ComponentLink1URL: https://www.johansondielectrics.com/downloads/catalog/johanson-dielectrics-product-catalog.pdf; ComponentLink2Description: DigiKey Link; ComponentLink2URL: http://digikey.com/product-detail/en/johanson-dielectrics-inc/500R07N3R3CV4T/709-1114-1-ND/1859446; Device Package: 0402 (1005 Metric); LastUpdated: 9/2/2020 1:02:12 AM; Lifecycle Status: Active; Minimum Order: 1; Mounting Type: Surface Mount, MLCC; Operating Temperature: -55°C ~ 125°C; Package / Case: 0402 (1005 Metric); Packaging: TapeAndReel; PartId: 7366; Part Status: Active; Price: 0.02; Series: -; Size / Dimension: 0.040" L x 0.020" W (1.02mm x 0.51mm); Supplier 1: DigiKey; Supplier Part Number 1: 709-1114-1-ND; Thickness (Max): 0.025" (0.64mm); Voltage - Rated: 50V
footprint CAP 0402_1005
pins: 1, 2

## 500R07N6R8CV4T
designator C?, comment 6.8pF
CAP CER 6.8PF 50V C0G/NP0 0402; Part Number: 500R07N6R8CV4T; Manufacturer: Johanson Dielectrics Inc.; Temperature Coefficient: C0G, NP0; Tolerance: ±0.25pF; Value: 6.8pF; Applications: General Purpose; Capacitance: 6.8pF; ComponentLink1Description: Datasheet; ComponentLink1URL: https://www.johansondielectrics.com/downloads/catalog/johanson-dielectrics-product-catalog.pdf; ComponentLink2Description: DigiKey Link; ComponentLink2URL: http://digikey.com/product-detail/en/johanson-dielectrics-inc/500R07N6R8CV4T/709-1116-1-ND/1859448; Device Package: 0402 (1005 Metric); LastUpdated: 9/2/2020 1:02:04 AM; Lifecycle Status: Active; Minimum Order: 1; Mounting Type: Surface Mount, MLCC; Operating Temperature: -55°C ~ 125°C; Package / Case: 0402 (1005 Metric); Packaging: TapeAndReel; PartId: 10905; Part Status: Active; Price: 0.03; Series: -; Size / Dimension: 0.040" L x 0.020" W (1.02mm x 0.51mm); Supplier 1: DigiKey; Supplier Part Number 1: 709-1116-1-ND; Thickness (Max): 0.025" (0.64mm); Voltage - Rated: 50V
footprint CAP 0402_1005
pins: 1, 2

## 500R07N101JV4T
designator C?, comment 100pF
CAP CER 100PF 50V C0G/NP0 0402; Part Number: 500R07N101JV4T; Manufacturer: Johanson Dielectrics Inc.; Temperature Coefficient: C0G, NP0; Tolerance: ±5%; Value: 100pF; Applications: General Purpose; Capacitance: 100pF; ComponentLink1Description: Datasheet; ComponentLink1URL: https://www.johansondielectrics.com/downloads/catalog/johanson-dielectrics-product-catalog.pdf; ComponentLink2Description: DigiKey Link; ComponentLink2URL: http://digikey.com/product-detail/en/johanson-dielectrics-inc/500R07N101JV4T/709-1123-1-ND/1859455; Device Package: 0402 (1005 Metric); LastUpdated: 9/2/2020 1:02:21 AM; Lifecycle Status: Active; Minimum Order: 1; Mounting Type: Surface Mount, MLCC; Operating Temperature: -55°C ~ 125°C; Package / Case: 0402 (1005 Metric); Packaging: TapeAndReel; PartId: 3165; Part Status: Active; Price: 0.02; Series: -; Size / Dimension: 0.040" L x 0.020" W (1.02mm x 0.51mm); Supplier 1: DigiKey; Supplier Part Number 1: 709-1123-1-ND; Thickness (Max): 0.025" (0.64mm); Voltage - Rated: 50V
footprint CAP 0402_1005
pins: 1, 2

## 500R07N150JV4T
designator C?, comment 15pF
CAP CER 15PF 50V C0G/NP0 0402; Part Number: 500R07N150JV4T; Manufacturer: Johanson Dielectrics Inc.; Temperature Coefficient: C0G, NP0; Tolerance: ±5%; Value: 15pF; Applications: General Purpose; Capacitance: 15pF; ComponentLink1Description: Datasheet; ComponentLink1URL: https://www.johansondielectrics.com/downloads/catalog/johanson-dielectrics-product-catalog.pdf; ComponentLink2Description: DigiKey Link; ComponentLink2URL: http://digikey.com/product-detail/en/johanson-dielectrics-inc/500R07N150JV4T/709-1118-1-ND/1859450; Device Package: 0402 (1005 Metric); LastUpdated: 9/2/2020 1:02:09 AM; Lifecycle Status: Active; Minimum Order: 1; Mounting Type: Surface Mount, MLCC; Operating Temperature: -55°C ~ 125°C; Package / Case: 0402 (1005 Metric); Packaging: TapeAndReel; PartId: 8897; Part Status: Active; Price: 0.01; Series: -; Size / Dimension: 0.040" L x 0.020" W (1.02mm x 0.51mm); Supplier 1: DigiKey; Supplier Part Number 1: 709-1118-1-ND; Thickness (Max): 0.025" (0.64mm); Voltage - Rated: 50V
footprint CAP 0402_1005
pins: 1, 2

## 500R07N220JV4T
designator C?, comment 22pF
CAP CER 22PF 50V C0G/NP0 0402; Part Number: 500R07N220JV4T; Manufacturer: Johanson Dielectrics Inc.; Temperature Coefficient: C0G, NP0; Tolerance: ±5%; Value: 22pF; Applications: General Purpose; Capacitance: 22pF; ComponentLink1Description: Datasheet; ComponentLink1URL: https://www.johansondielectrics.com/downloads/catalog/johanson-dielectrics-product-catalog.pdf; ComponentLink2Description: DigiKey Link; ComponentLink2URL: http://digikey.com/product-detail/en/johanson-dielectrics-inc/500R07N220JV4T/709-1119-1-ND/1859451; Device Package: 0402 (1005 Metric); LastUpdated: 9/2/2020 1:02:11 AM; Lifecycle Status: Active; Minimum Order: 1; Mounting Type: Surface Mount, MLCC; Operating Temperature: -55°C ~ 125°C; Package / Case: 0402 (1005 Metric); Packaging: TapeAndReel; PartId: 7693; Part Status: Active; Price: 0.02; Series: -; Size / Dimension: 0.040" L x 0.020" W (1.02mm x 0.51mm); Supplier 1: DigiKey; Supplier Part Number 1: 709-1119-1-ND; Thickness (Max): 0.025" (0.64mm); Voltage - Rated: 50V
footprint CAP 0402_1005
pins: 1, 2

## 500R07N330JV4T
designator C?, comment 33pF
CAP CER 33PF 50V C0G/NP0 0402; Part Number: 500R07N330JV4T; Manufacturer: Johanson Dielectrics Inc.; Temperature Coefficient: C0G, NP0; Tolerance: ±5%; Value: 33pF; Applications: General Purpose; Capacitance: 33pF; ComponentLink1Description: Datasheet; ComponentLink1URL: https://www.johansondielectrics.com/downloads/catalog/johanson-dielectrics-product-catalog.pdf; ComponentLink2Description: DigiKey Link; ComponentLink2URL: http://digikey.com/product-detail/en/johanson-dielectrics-inc/500R07N330JV4T/709-1120-1-ND/1859452; Device Package: 0402 (1005 Metric); LastUpdated: 9/2/2020 1:02:09 AM; Lifecycle Status: Active; Minimum Order: 1; Mounting Type: Surface Mount, MLCC; Operating Temperature: -55°C ~ 125°C; Package / Case: 0402 (1005 Metric); Packaging: TapeAndReel; PartId: 8802; Part Status: Active; Price: 0.01; Series: -; Size / Dimension: 0.040" L x 0.020" W (1.02mm x 0.51mm); Supplier 1: DigiKey; Supplier Part Number 1: 709-1120-1-ND; Thickness (Max): 0.025" (0.64mm); Voltage - Rated: 50V
footprint CAP 0402_1005
pins: 1, 2

## 500R07N680JV4T
designator C?, comment 68pF
CAP CER 68PF 50V C0G/NP0 0402; Part Number: 500R07N680JV4T; Manufacturer: Johanson Dielectrics Inc.; Temperature Coefficient: C0G, NP0; Tolerance: ±5%; Value: 68pF; Applications: General Purpose; Capacitance: 68pF; ComponentLink1Description: Datasheet; ComponentLink1URL: https://www.johansondielectrics.com/downloads/catalog/johanson-dielectrics-product-catalog.pdf; ComponentLink2Description: DigiKey Link; ComponentLink2URL: http://digikey.com/product-detail/en/johanson-dielectrics-inc/500R07N680JV4T/709-1122-1-ND/1859454; Device Package: 0402 (1005 Metric); LastUpdated: 9/2/2020 1:02:09 AM; Lifecycle Status: Active; Minimum Order: 1; Mounting Type: Surface Mount, MLCC; Operating Temperature: -55°C ~ 125°C; Package / Case: 0402 (1005 Metric); Packaging: TapeAndReel; PartId: 8900; Part Status: Active; Price: 0.01; Series: -; Size / Dimension: 0.040" L x 0.020" W (1.02mm x 0.51mm); Supplier 1: DigiKey; Supplier Part Number 1: 709-1122-1-ND; Thickness (Max): 0.025" (0.64mm); Voltage - Rated: 50V
footprint CAP 0402_1005
pins: 1, 2

## 500R07S0R2AV4T
designator C?, comment 0.2pF
CAP CER 0.2PF 50V C0G/NP0 0402; Part Number: 500R07S0R2AV4T; Manufacturer: Johanson Technology Inc.; Temperature Coefficient: C0G, NP0; Tolerance: ±0.05pF; Value: 0.2pF; Applications: RF, Microwave, High Frequency; Capacitance: 0.2pF; ComponentLink1Description: Datasheet; ComponentLink1URL: https://www.johansontechnology.com/downloads/catalog/johanson-technology-multi-layer-high-q-capacitors.pdf; ComponentLink2Description: DigiKey Link; ComponentLink2URL: http://digikey.com/product-detail/en/johanson-technology-inc/500R07S0R2AV4T/712-1244-1-ND/1786706; Device Package: 0402 (1005 Metric); Features: High Q, Low Loss, Ultra Low ESR; LastUpdated: 9/2/2020 1:02:09 AM; Lifecycle Status: Active; Minimum Order: 1; Mounting Type: Surface Mount, MLCC; Operating Temperature: -55°C ~ 125°C; Package / Case: 0402 (1005 Metric); Packaging: TapeAndReel; PartId: 8695; Part Status: Active; Price: 0.03; Series: S; Size / Dimension: 0.040" L x 0.020" W (1.02mm x 0.51mm); Supplier 1: DigiKey; Supplier Part Number 1: 712-1244-1-ND; Thickness (Max): 0.024" (0.61mm); Voltage - Rated: 50V
footprint CAP 0402_1005
pins: 1, 2

## 500R07S0R2BV4T
designator C?, comment 0.2pF
CAP CER 0.2PF 50V C0G/NP0 0402; Part Number: 500R07S0R2BV4T; Manufacturer: Johanson Technology Inc.; Temperature Coefficient: C0G, NP0; Tolerance: ±0.1pF; Value: 0.2pF; Applications: RF, Microwave, High Frequency; Capacitance: 0.2pF; ComponentLink1Description: Datasheet; ComponentLink1URL: https://www.johansontechnology.com/downloads/catalog/johanson-technology-multi-layer-high-q-capacitors.pdf; ComponentLink2Description: DigiKey Link; ComponentLink2URL: http://digikey.com/product-detail/en/johanson-technology-inc/500R07S0R2BV4T/712-1160-1-ND/1786622; Device Package: 0402 (1005 Metric); Features: High Q, Low Loss, Ultra Low ESR; LastUpdated: 9/2/2020 1:01:24 AM; Lifecycle Status: Active; Minimum Order: 1; Mounting Type: Surface Mount, MLCC; Operating Temperature: -55°C ~ 125°C; Package / Case: 0402 (1005 Metric); Packaging: TapeAndReel; PartId: 13107; Part Status: Active; Price: 0.02; Series: S; Size / Dimension: 0.040" L x 0.020" W (1.02mm x 0.51mm); Supplier 1: DigiKey; Supplier Part Number 1: 712-1160-1-ND; Thickness (Max): 0.024" (0.61mm); Voltage - Rated: 50V
footprint CAP 0402_1005
pins: 1, 2

## 500R07S0R3AV4T
designator C?, comment 0.3pF
CAP CER 0.3PF 50V C0G/NP0 0402; Part Number: 500R07S0R3AV4T; Manufacturer: Johanson Technology Inc.; Temperature Coefficient: C0G, NP0; Tolerance: ±0.05pF; Value: 0.3pF; Applications: RF, Microwave, High Frequency; Capacitance: 0.3pF; ComponentLink1Description: Datasheet; ComponentLink1URL: https://www.johansontechnology.com/downloads/catalog/johanson-technology-multi-layer-high-q-capacitors.pdf; ComponentLink2Description: DigiKey Link; ComponentLink2URL: http://digikey.com/product-detail/en/johanson-technology-inc/500R07S0R3AV4T/712-1245-1-ND/1786707; Device Package: 0402 (1005 Metric); Features: High Q, Low Loss, Ultra Low ESR; LastUpdated: 9/2/2020 1:01:15 AM; Lifecycle Status: Active; Minimum Order: 1; Mounting Type: Surface Mount, MLCC; Operating Temperature: -55°C ~ 125°C; Package / Case: 0402 (1005 Metric); Packaging: TapeAndReel; PartId: 13405; Part Status: Active; Price: 0.03; Series: S; Size / Dimension: 0.040" L x 0.020" W (1.02mm x 0.51mm); Supplier 1: DigiKey; Supplier Part Number 1: 712-1245-1-ND; Thickness (Max): 0.024" (0.61mm); Voltage - Rated: 50V
footprint CAP 0402_1005
pins: 1, 2

## 500R07S0R3BV4T
designator C?, comment 0.3pF
CAP CER 0.3PF 50V C0G/NP0 0402; Part Number: 500R07S0R3BV4T; Manufacturer: Johanson Technology Inc.; Temperature Coefficient: C0G, NP0; Tolerance: ±0.1pF; Value: 0.3pF; Applications: RF, Microwave, High Frequency; Capacitance: 0.3pF; ComponentLink1Description: Datasheet; ComponentLink1URL: https://www.johansontechnology.com/downloads/catalog/johanson-technology-multi-layer-high-q-capacitors.pdf; ComponentLink2Description: DigiKey Link; ComponentLink2URL: http://digikey.com/product-detail/en/johanson-technology-inc/500R07S0R3BV4T/712-1161-1-ND/1786623; Device Package: 0402 (1005 Metric); Features: High Q, Low Loss, Ultra Low ESR; LastUpdated: 9/2/2020 1:02:25 AM; Lifecycle Status: Active; Minimum Order: 1; Mounting Type: Surface Mount, MLCC; Operating Temperature: -55°C ~ 125°C; Package / Case: 0402 (1005 Metric); Packaging: TapeAndReel; PartId: 1780; Part Status: Active; Price: 0.02; Series: S; Size / Dimension: 0.040" L x 0.020" W (1.02mm x 0.51mm); Supplier 1: DigiKey; Supplier Part Number 1: 712-1161-1-ND; Thickness (Max): 0.024" (0.61mm); Voltage - Rated: 50V
footprint CAP 0402_1005
pins: 1, 2

## 500R07S0R4AV4T
designator C?, comment 0.4pF
CAP CER 0.4PF 50V C0G/NP0 0402; Part Number: 500R07S0R4AV4T; Manufacturer: Johanson Technology Inc.; Temperature Coefficient: C0G, NP0; Tolerance: ±0.05pF; Value: 0.4pF; Applications: RF, Microwave, High Frequency; Capacitance: 0.4pF; ComponentLink1Description: Datasheet; ComponentLink1URL: https://www.johansontechnology.com/downloads/catalog/johanson-technology-multi-layer-high-q-capacitors.pdf; ComponentLink2Description: DigiKey Link; ComponentLink2URL: http://digikey.com/product-detail/en/johanson-technology-inc/500R07S0R4AV4T/712-1246-1-ND/1786708; Device Package: 0402 (1005 Metric); Features: High Q, Low Loss, Ultra Low ESR; LastUpdated: 9/2/2020 1:02:14 AM; Lifecycle Status: Active; Minimum Order: 1; Mounting Type: Surface Mount, MLCC; Operating Temperature: -55°C ~ 125°C; Package / Case: 0402 (1005 Metric); Packaging: TapeAndReel; PartId: 6523; Part Status: Active; Price: 0.03; Series: S; Size / Dimension: 0.040" L x 0.020" W (1.02mm x 0.51mm); Supplier 1: DigiKey; Supplier Part Number 1: 712-1246-1-ND; Thickness (Max): 0.024" (0.61mm); Voltage - Rated: 50V
footprint CAP 0402_1005
pins: 1, 2

## 500R07S0R5AV4T
designator C?, comment 0.5pF
CAP CER 0.5PF 50V C0G/NP0 0402; Part Number: 500R07S0R5AV4T; Manufacturer: Johanson Technology Inc.; Temperature Coefficient: C0G, NP0; Tolerance: ±0.05pF; Value: 0.5pF; Applications: RF, Microwave, High Frequency; Capacitance: 0.5pF; ComponentLink1Description: Datasheet; ComponentLink1URL: https://www.johansontechnology.com/downloads/catalog/johanson-technology-multi-layer-high-q-capacitors.pdf; ComponentLink2Description: DigiKey Link; ComponentLink2URL: http://digikey.com/product-detail/en/johanson-technology-inc/500R07S0R5AV4T/712-1247-1-ND/1786709; Device Package: 0402 (1005 Metric); Features: High Q, Low Loss, Ultra Low ESR; LastUpdated: 9/2/2020 1:02:09 AM; Lifecycle Status: Active; Minimum Order: 1; Mounting Type: Surface Mount, MLCC; Operating Temperature: -55°C ~ 125°C; Package / Case: 0402 (1005 Metric); Packaging: TapeAndReel; PartId: 8698; Part Status: Active; Price: 0.03; Series: S; Size / Dimension: 0.040" L x 0.020" W (1.02mm x 0.51mm); Supplier 1: DigiKey; Supplier Part Number 1: 712-1247-1-ND; Thickness (Max): 0.024" (0.61mm); Voltage - Rated: 50V
footprint CAP 0402_1005
pins: 1, 2

## 500R07S0R5BV4T
designator C?, comment 0.5pF
CAP CER 0.5PF 50V C0G/NP0 0402; Part Number: 500R07S0R5BV4T; Manufacturer: Johanson Technology Inc.; Temperature Coefficient: C0G, NP0; Tolerance: ±0.1pF; Value: 0.5pF; Applications: RF, Microwave, High Frequency; Capacitance: 0.5pF; ComponentLink1Description: Datasheet; ComponentLink1URL: https://www.johansontechnology.com/downloads/catalog/johanson-technology-multi-layer-high-q-capacitors.pdf; ComponentLink2Description: DigiKey Link; ComponentLink2URL: http://digikey.com/product-detail/en/johanson-technology-inc/500R07S0R5BV4T/712-1162-1-ND/1786624; Device Package: 0402 (1005 Metric); Features: High Q, Low Loss, Ultra Low ESR; LastUpdated: 9/2/2020 1:02:25 AM; Lifecycle Status: Active; Minimum Order: 1; Mounting Type: Surface Mount, MLCC; Operating Temperature: -55°C ~ 125°C; Package / Case: 0402 (1005 Metric); Packaging: TapeAndReel; PartId: 1771; Part Status: Active; Price: 0.02; Series: S; Size / Dimension: 0.040" L x 0.020" W (1.02mm x 0.51mm); Supplier 1: DigiKey; Supplier Part Number 1: 712-1162-1-ND; Thickness (Max): 0.024" (0.61mm); Voltage - Rated: 50V
footprint CAP 0402_1005
pins: 1, 2